# EAGLE library part M20-7821646-FEM-HDR (library 6502-shield)
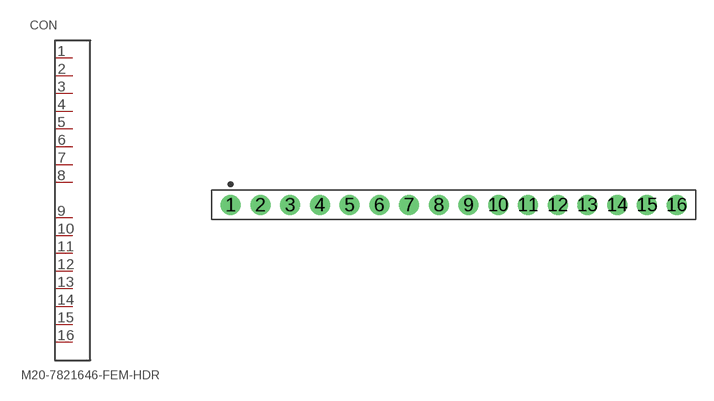
[diagram p3: symbol with the pads of HDRVR16W64P254_1X16_4104X250X865B; footprint HDRVR16W64P254_1X16_4104X250X865B]

Designator prefix CON

## M20-7821646-FEM-HDR  [HDRVR16W64P254_1X16_4104X250X865B]
1  1
2  2
3  3
4  4
5  5
6  6
7  7
8  8
9  9
10  10
11  11
12  12
13  13
14  14
15  15
16  16

## Footprint HDRVR16W64P254_1X16_4104X250X865B (pad centres in mm)
Single-row, 16-pin Receptacle Header (Female) Straight, 2.54 mm (0.10 in) col pitch, 8.65 mm insulator length, 41.04 X 2.50 X 8.65 mm body Single-row (1X16), 16-pin Receptacle Header (Female) Straight package with 2.54 mm (0.10 in) col pitch, 0.64 mm lead width, 3.25 mm tail length and 8.65 mm insulator length with overall size 41.04 X 2.50 X 8.65 mm, pin pattern - clockwise from top left
drill 1.105 pad 1.705 round: 1 0,0; 2 2.54,0; 3 5.08,0; 4 7.62,0; 5 10.16,0; 6 12.7,0; 7 15.24,0; 8 17.78,0; 9 20.32,0; 10 22.86,0; 11 25.4,0; 12 27.94,0; 13 30.48,0; 14 33.02,0; 15 35.56,0; 16 38.1,0